# EAGLE library part NPPC122KFMS-RC (library ik)
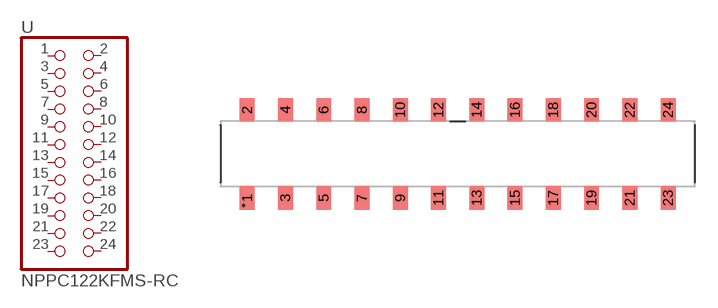
[diagram p2: symbol with the pads of NPPC122KFMS-RC; footprint NPPC122KFMS-RC]

Designator prefix -

## NPPC122KFMS-RC  [NPPC122KFMS-RC]
1  1  pas
2  2  pas
3  3  pas
4  4  pas
5  5  pas
6  6  pas
7  7  pas
8  8  pas
9  9  pas
10  10  pas
11  11  pas
12  12  pas
13  13  pas
14  14  pas
15  15  pas
16  16  pas
17  17  pas
18  18  pas
19  19  pas
20  20  pas
21  21  pas
22  22  pas
23  23  pas
24  24  pas

## Footprint NPPC122KFMS-RC (pad centres in mm)
smd 0.991 x 1.549: 1 -15.24,-3.302; 2 -15.24,2.54; 3 -12.7,-3.302; 4 -12.7,2.54; 5 -10.16,-3.302; 6 -10.16,2.54; 7 -7.62,-3.302; 8 -7.62,2.54; 9 -5.08,-3.302; 10 -5.08,2.54; 11 -2.54,-3.302; 12 -2.54,2.54; 13 0,-3.302; 14 0,2.54; 15 2.54,-3.302; 16 2.54,2.54; 17 5.08,-3.302; 18 5.08,2.54; 19 7.62,-3.302; 20 7.62,2.54; 21 10.16,-3.302; 22 10.16,2.54; 23 12.7,-3.302; 24 12.7,2.54